# Altium footprint library MyLib.PcbLib: 105 footprints (part 3 of 7)
Each footprint in its own frame and in the unit in brackets; x right, y up, seen from the top. Pads: shape width x height; smd on the part's side, far side on the other; paste and mask are expansions set on the pad; w line width, h text height; cw(c..) or ccw(c..) is an arc to the next point about the centre after c.
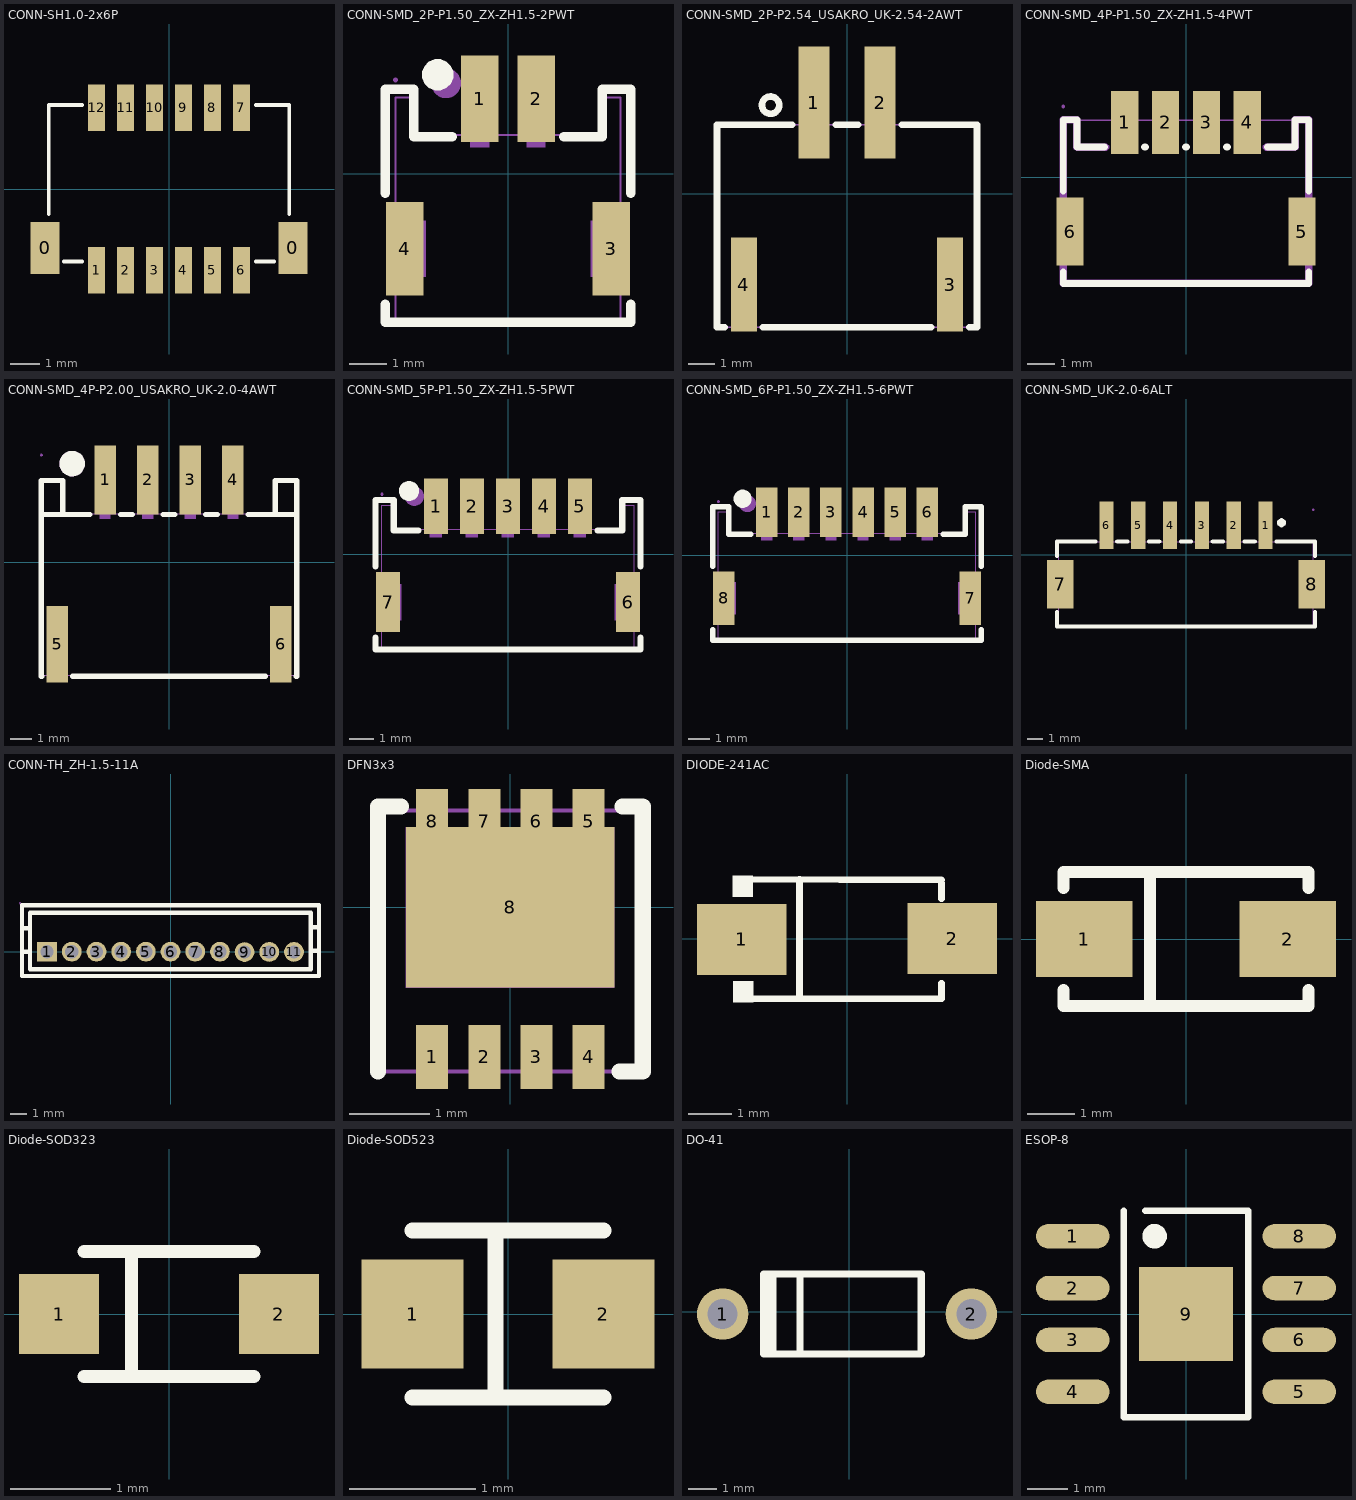
[diagram p2: the footprints below, top view; thin cyan lines are the x and y axes]

## CONN-SH1.0-2x6P [mm]
pads (14):
  rect 1x1.8 smd mask+0.051: 0(-4.274,-2.032) 0(4.274,-2.032)
  rect 0.6x1.6 smd mask+0.051: 1(-2.5,-2.8) 2(-1.5,-2.8) 3(-0.5,-2.8) 4(0.5,-2.8) 5(1.5,-2.8) 6(2.5,-2.8) 7(2.5,2.8) 8(1.5,2.8) 9(0.5,2.8) 10(-0.5,2.8) 11(-1.5,2.8) 12(-2.5,2.8)
Top Overlay:
  lines w0.127: -4.15,-0.875 -4.15,2.9 -3,2.9 ; -3.625,-2.5 -3,-2.5 ; 3,-2.5 3.625,-2.5 ; 3,2.9 4.15,2.9 4.15,-0.875

## CONN-SMD_2P-P1.50_ZX-ZH1.5-2PWT [mm]
pads (4):
  rect 1x2.3 smd paste+0 mask+0.05: 1(-0.75,2) 2(0.75,2)
  rect 1x2.5 smd paste+0 mask+0.05: 3(2.75,-2) 4(-2.75,-2)
Top Overlay:
  region: -2.285,2.635 -2.285,2.717 -2.222,2.868 -2.107,2.983 -1.956,3.046 -1.792,3.046 -1.641,2.983 -1.526,2.868 -1.463,2.717 -1.463,2.635 -1.463,2.553 -1.526,2.402 -1.641,2.287 -1.792,2.224 -1.956,2.224 -2.107,2.287 -2.222,2.402 -2.285,2.553 -2.285,2.635
  lines w0.254: -3.271,-3.48 -3.271,-3.969 3.27,-3.969 ; -3.271,-0.52 -3.271,2.254 -2.509,2.254 -2.509,0.984 -1.481,0.984 ; 1.481,0.984 2.509,0.984 2.509,2.254 3.271,2.254 3.271,-0.52 ; 3.271,-3.969 3.271,-3.48
Mechanical 6:
  circle w0.4: c-1.651,2.413 r0.2
Mechanical 15:
  region: 2.2,-1.25 3,-1.25 3,-2.75 2.2,-2.75
  region: -3,-1.25 -2.2,-1.25 -2.2,-2.75 -3,-2.75
  region: 1,0.7 0.5,0.7 0.5,2.5 1,2.5
  region: -0.5,0.7 -1,0.7 -1,2.5 -0.5,2.5
  region: -2.94,2.5 -2.94,2.525 -2.975,2.56 -3.025,2.56 -3.06,2.525 -3.06,2.5 -3.06,2.475 -3.025,2.44 -2.975,2.44 -2.94,2.475 -2.94,2.5
  lines w0.051: -3,-3.969 -3,2.031 -2.5,2.031 -2.5,1.031 2.5,1.031 2.5,2.031 3,2.031 3,-3.969 -3,-3.969

## CONN-SMD_2P-P2.54_USAKRO_UK-2.54-2AWT [mm]
pads (4):
  rect 1.2x4.3 smd paste+0 mask+0.05: 1(-1.27,3.5) 2(1.27,3.5)
  rect 1x3.6 smd paste+0 mask+0.05: 3(3.97,-3.5) 4(-3.97,-3.5)
Top Overlay:
  circle w0.254: c-2.94,3.4 r0.332
  lines w0.254: -5.01,2.65 -2.101,2.65 ; -5,2.65 -5,-5.15 -4.701,-5.15 ; -3.239,-5.15 3.239,-5.15 ; -0.439,2.65 0.439,2.65 ; 2.101,2.65 5,2.65 5,-5.15 4.701,-5.15
Mechanical 6:
  circle w0.4: c-1.22,4.62 r0.2
Mechanical 15:
  region: 0.95,5 1.59,5 1.59,2 0.95,2
  region: -1.59,5 -0.95,5 -0.95,2 -1.59,2
  region: 3.65,-2.25 4.29,-2.25 4.29,-4.75 3.65,-4.75
  region: -4.29,-2.25 -3.65,-2.25 -3.65,-4.75 -4.29,-4.75
  lines w0.051: -5,-5.15 -5,2.65 5,2.65 5,-5.15 -5,-5.15

## CONN-SMD_4P-P1.50_ZX-ZH1.5-4PWT [mm]
pads (6):
  rect 1x2.3 smd paste+0 mask+0.05: 1(-2.25,2) 2(-0.75,2) 3(0.75,2) 4(2.25,2)
  rect 1x2.5 smd paste+0 mask+0.05: 5(4.25,-2) 6(-4.25,-2)
Top Overlay:
  lines w0.254: -4.5,-3.481 -4.5,-3.9 4.5,-3.9 4.5,-3.481 ; -4.5,-0.519 -4.5,2.1 -4,2.1 -4,1.1 -2.981,1.1 ; -1.519,1.1 -1.481,1.1 ; -0.019,1.1 0.019,1.1 ; 1.481,1.1 1.519,1.1 ; 2.981,1.1 4,1.1 4,2.1 4.5,2.1 4.5,-0.519
Mechanical 6:
  region: -2.95,0.973 -4,0.973 -4.025,0.973 -4.072,0.992 -4.108,1.028 -4.127,1.075 -4.127,1.1 -4.127,1.973 -4.373,1.973 -4.373,-3.773 4.373,-3.773 4.373,1.973 4.127,1.973 4.127,1.1 4.127,1.075 4.108,1.028 4.072,0.992 4.025,0.973 4,0.973 2.95,0.973 2.897,0.973 2.823,1.047 2.823,1.153 2.897,1.227 2.95,1.227 3.873,1.227 3.873,2.1 3.873,2.125 3.892,2.172 3.928,2.208 3.975,2.227 4,2.227 4.5,2.227 4.525,2.227 4.572,2.208 4.608,2.172 4.627,2.125 4.627,2.1 4.627,-3.9 4.627,-3.925 4.608,-3.972 4.572,-4.008 4.525,-4.027 4.5,-4.027 -4.5,-4.027 -4.525,-4.027 -4.572,-4.008 -4.608,-3.972 -4.627,-3.925 -4.627,-3.9 -4.627,2.1 -4.627,2.125 -4.608,2.172 -4.572,2.208 -4.525,2.227 -4.5,2.227 -4,2.227 -3.975,2.227 -3.928,2.208 -3.892,2.172 -3.873,2.125 -3.873,2.1 -3.873,1.227 -2.95,1.227 -2.897,1.227 -2.823,1.153 -2.823,1.047 -2.897,0.973 -2.95,0.973
Mechanical 15:
  region: -4.44,2.59 -4.44,2.615 -4.475,2.65 -4.525,2.65 -4.56,2.615 -4.56,2.59 -4.56,2.565 -4.525,2.53 -4.475,2.53 -4.44,2.565 -4.44,2.59
  region: 2,2.59 2.5,2.59 2.5,1.09 2,1.09
  region: 0.5,2.59 1,2.59 1,1.09 0.5,1.09
  region: -1,2.59 -0.5,2.59 -0.5,1.09 -1,1.09
  region: -2.5,2.59 -2,2.59 -2,1.09 -2.5,1.09
  region: 4,-1 4.5,-1 4.5,-3 4,-3
  region: -4.5,-1 -4,-1 -4,-3 -4.5,-3
  lines w0.051: -4.5,-3.911 -4.5,2.089 4.5,2.089 4.5,-3.911 -4.5,-3.911

## CONN-SMD_4P-P2.00_USAKRO_UK-2.0-4AWT [mm]
pads (6):
  rect 1x3.25 smd paste+0 mask+0.05: 1(-3,3.862) 2(-1,3.862) 3(1,3.862) 4(3,3.862)
  rect 1x3.6 smd paste+0 mask+0.05: 5(-5.25,-3.862) 6(5.25,-3.862)
Top Overlay:
  circle w0.6: c-4.551,4.632 r0.3
  lines w0.254: -5.981,-5.363 -6,-5.363 -6,2.237 ; -4.519,-5.363 4.519,-5.363 ; -3.731,2.237 -6,2.237 ; -2.269,2.237 -1.731,2.237 ; -0.269,2.237 0.269,2.237 ; 1.731,2.237 2.269,2.237 ; 3.731,2.237 6,2.237 ; 5,2.237 5,3.837 6,3.837 6,2.237 ; 5.981,-5.363 6,-5.363 6,2.237 ; -6,2.237 -5,2.237 -5,3.837 -6,3.837 -6,2.237
Mechanical 6:
  circle w0.6: c-4.551,4.632 r0.3
Mechanical 15:
  region: -5.94,5.031 -5.94,5.055 -5.975,5.09 -6.025,5.09 -6.06,5.055 -6.06,5.03 -6.06,5.006 -6.025,4.97 -5.975,4.971 -5.94,5.006 -5.94,5.031
  region: 2.75,5.031 3.25,5.031 3.25,2.031 2.75,2.031
  region: 0.75,5.031 1.25,5.031 1.25,2.031 0.75,2.031
  region: -1.25,5.031 -0.75,5.031 -0.75,2.031 -1.25,2.031
  region: -3.25,5.031 -2.75,5.031 -2.75,2.031 -3.25,2.031
  region: 5,-2.362 5.5,-2.362 5.5,-5.362 5,-5.362
  region: -5.5,-2.362 -5,-2.362 -5,-5.362 -5.5,-5.362
  lines w0.051: -6,-5.319 -6,2.281 6,2.281 6,-5.319 -6,-5.319

## CONN-SMD_5P-P1.50_ZX-ZH1.5-5PWT [mm]
pads (7):
  rect 1x2.3 smd paste+0 mask+0.05: 1(-3,2) 2(-1.5,2) 3(0,2) 4(1.5,2) 5(3,2)
  rect 1x2.5 smd paste+0 mask+0.05: 6(5,-2) 7(-5,-2)
Top Overlay:
  region: -4.535,2.635 -4.535,2.717 -4.472,2.868 -4.357,2.983 -4.206,3.046 -4.042,3.046 -3.891,2.983 -3.775,2.868 -3.713,2.717 -3.713,2.635 -3.713,2.553 -3.775,2.402 -3.891,2.287 -4.042,2.224 -4.206,2.224 -4.357,2.287 -4.472,2.402 -4.535,2.553 -4.535,2.635
  lines w0.254: -5.521,-3.48 -5.521,-3.969 5.52,-3.969 ; -5.521,-0.52 -5.521,2.254 -4.759,2.254 -4.759,0.984 -3.731,0.984 ; 3.731,0.984 4.759,0.984 4.759,2.254 5.521,2.254 5.521,-0.52 ; 5.521,-3.969 5.521,-3.48
Mechanical 6:
  circle w0.4: c-3.901,2.413 r0.2
Mechanical 15:
  region: 4.45,-1.25 5.25,-1.25 5.25,-2.75 4.45,-2.75
  region: 3.25,0.7 2.75,0.7 2.75,2.5 3.25,2.5
  region: 0.25,0.7 -0.25,0.7 -0.25,2.5 0.25,2.5
  region: 1.75,0.7 1.25,0.7 1.25,2.5 1.75,2.5
  region: -2.75,0.7 -3.25,0.7 -3.25,2.5 -2.75,2.5
  region: -1.25,0.7 -1.75,0.7 -1.75,2.5 -1.25,2.5
  region: -5.25,-1.25 -4.45,-1.25 -4.45,-2.75 -5.25,-2.75
  region: -5.19,2.5 -5.191,2.524 -5.226,2.558 -5.274,2.558 -5.309,2.524 -5.31,2.5 -5.309,2.476 -5.274,2.443 -5.226,2.443 -5.191,2.476 -5.19,2.5
  lines w0.051: -5.25,-3.969 -5.25,2.031 -4.75,2.031 -4.75,1.031 4.75,1.031 4.75,2.031 5.25,2.031 5.25,-3.969 -5.25,-3.969

## CONN-SMD_6P-P1.50_ZX-ZH1.5-6PWT [mm]
pads (8):
  rect 1x2.3 smd paste+0 mask+0.05: 1(-3.75,2) 2(-2.25,2) 3(-0.75,2) 4(0.75,2) 5(2.25,2) 6(3.75,2)
  rect 1x2.5 smd paste+0 mask+0.05: 7(5.75,-2) 8(-5.75,-2)
Top Overlay:
  region: -5.285,2.635 -5.285,2.717 -5.222,2.868 -5.107,2.983 -4.956,3.046 -4.792,3.046 -4.641,2.983 -4.525,2.868 -4.463,2.717 -4.463,2.635 -4.463,2.553 -4.525,2.402 -4.641,2.287 -4.792,2.224 -4.956,2.224 -5.107,2.287 -5.222,2.402 -5.285,2.553 -5.285,2.635
  lines w0.254: -6.271,-3.48 -6.271,-3.969 6.27,-3.969 ; -6.271,-0.52 -6.271,2.254 -5.509,2.254 -5.509,0.984 -4.481,0.984 ; 4.481,0.984 5.509,0.984 5.509,2.254 6.271,2.254 6.271,-0.52 ; 6.271,-3.969 6.271,-3.48
Mechanical 6:
  circle w0.4: c-4.651,2.413 r0.2
Mechanical 15:
  region: 5.2,-1.25 6,-1.25 6,-2.75 5.2,-2.75
  region: 2.5,0.7 2,0.7 2,2.5 2.5,2.5
  region: 4,0.7 3.5,0.7 3.5,2.5 4,2.5
  region: -0.5,0.7 -1,0.7 -1,2.5 -0.5,2.5
  region: 1,0.7 0.5,0.7 0.5,2.5 1,2.5
  region: -3.5,0.7 -4,0.7 -4,2.5 -3.5,2.5
  region: -2,0.7 -2.5,0.7 -2.5,2.5 -2,2.5
  region: -6,-1.25 -5.2,-1.25 -5.2,-2.75 -6,-2.75
  region: -5.94,2.5 -5.94,2.525 -5.975,2.56 -6.025,2.56 -6.06,2.525 -6.06,2.5 -6.06,2.475 -6.025,2.44 -5.975,2.44 -5.94,2.475 -5.94,2.5
  lines w0.051: -6,-3.969 -6,2.031 -5.5,2.031 -5.5,1.031 5.5,1.031 5.5,2.031 6,2.031 6,-3.969 -6,-3.969

## CONN-SMD_UK-2.0-6ALT [mm]
pads (8):
  rect 0.9x3 smd: 1(5,1.85) 2(3,1.85) 3(1,1.85) 4(-1,1.85) 5(-3,1.85) 6(-5,1.85)
  rect 1.65x3.05 smd: 7(-7.9,-1.85) 8(7.9,-1.85)
Top Overlay:
  region: 5.732,2 5.732,2.053 5.772,2.152 5.848,2.228 5.947,2.268 6.053,2.268 6.152,2.228 6.228,2.152 6.268,2.053 6.268,2 6.268,1.947 6.228,1.848 6.152,1.772 6.053,1.732 5.947,1.732 5.848,1.772 5.772,1.848 5.732,1.947 5.732,2
  lines w0.254: -8.101,-3.606 -8.101,-4.531 8.101,-4.531 8.101,-3.607 ; -8.101,-0.093 -8.101,0.825 -5.682,0.825 -5.681,0.825 ; -4.319,0.825 -3.681,0.825 ; -2.319,0.825 -1.681,0.825 ; -0.319,0.825 0.319,0.825 ; 1.681,0.825 2.319,0.825 ; 3.681,0.825 4.319,0.825 ; 5.681,0.825 8.1,0.825 8.1,-0.093 ; 8.1,-0.094 8.1,-0.093
Mechanical 6:
  circle w0.2: c6,2 r0.1
Mechanical 15:
  region: 7.25,-0.85 8,-0.85 8,-2.85 7.25,-2.85
  region: -8,-0.85 -7.25,-0.85 -7.25,-2.85 -8,-2.85
  region: 2.75,2.819 3.25,2.819 3.25,0.519 2.75,0.519
  region: 4.75,2.819 5.25,2.819 5.25,0.519 4.75,0.519
  region: 0.75,2.819 1.25,2.819 1.25,0.519 0.75,0.519
  region: -1.25,2.819 -0.75,2.819 -0.75,0.519 -1.25,0.519
  region: -3.25,2.819 -2.75,2.819 -2.75,0.519 -3.25,0.519
  region: -5.25,2.819 -4.75,2.819 -4.75,0.519 -5.25,0.519
  region: 8.06,2.819 8.06,2.843 8.025,2.878 7.976,2.878 7.941,2.843 7.94,2.819 7.941,2.794 7.976,2.76 8.025,2.76 8.06,2.794 8.06,2.819
  lines w0.051: -8,-4.531 8,-4.531 8,0.819 -8,0.819 -8,-4.531

## CONN-TH_ZH-1.5-11A [mm]
pads (11):
  rect 1.2x1.2 hole 0.8: 1(-7.5,0.013)
  round 1.2 hole 0.8: 2(-6,0.013) 3(-4.5,0.013) 4(-3,0.013) 5(-1.5,0.013) 6(0,0.013) 7(1.5,0.013) 8(3,0.013) 9(4.5,-0.013) 10(6,0) 11(7.5,0)
Top Overlay:
  lines w0.254: -9.019,0.013 -8.537,0.013 ; -9.019,1.435 -8.537,1.435 ; -9.02,2.832 9.02,2.832 ; -9.019,2.839 -9.019,-1.46 9.02,-1.461 9.02,2.839 ; 8.52,-1.048 8.52,2.381 ; 8.52,0.069 9.02,0.069 ; 8.52,1.492 9.02,1.492 ; 8.537,-1.054 -8.537,-1.054 -8.537,2.375 8.537,2.375
Mechanical 15:
  region: -9.086,2.966 -9.086,2.991 -9.122,3.026 -9.171,3.026 -9.206,2.991 -9.206,2.966 -9.206,2.942 -9.171,2.906 -9.122,2.906 -9.086,2.942 -9.086,2.966

## DFN3x3 [mm]
pads (9):
  rect 0.4x0.8 smd mask+0.051: 1(-0.971,-1.863) 2(-0.321,-1.863) 3(0.33,-1.863) 4(0.98,-1.863) 5(0.98,1.076) 6(0.33,1.076) 7(-0.32,1.076) 8(-0.971,1.076)
  rect 2.6x2 smd mask+0.051: 8(0,0)
Top Overlay:
  lines w0.2: -1.645,-2.043 -1.645,1.257 -1.358,1.257 ; 1.367,-2.043 1.655,-2.043 1.655,1.257 1.4,1.257
Top Paste:
  region: -0.77,-2.264 -0.77,-1.463 -1.17,-1.463 -1.17,-2.264
  region: -0.12,-2.264 -0.12,-1.463 -0.52,-1.463 -0.52,-2.264
  region: 0.53,-2.264 0.53,-1.463 0.13,-1.463 0.13,-2.264
  region: 0.78,-1.463 0.78,-2.264 1.18,-2.264 1.18,-1.463
  region: -0.12,1 -0.12,1.476 -0.52,1.476 -0.52,1 -0.77,1 -0.77,1.476 -1.17,1.476 -1.17,1 -1.299,1 -1.299,-1 1.301,-1 1.301,1 1.18,1 1.18,1.476 0.78,1.476 0.78,1 0.53,1 0.53,1.476 0.13,1.476 0.13,1
Mechanical 15:
  region: -0.82,-2.038 -1.12,-2.038 -1.12,-1.688 -0.82,-1.688
  region: -0.17,-2.038 -0.47,-2.038 -0.47,-1.688 -0.17,-1.688
  region: 0.48,-2.038 0.18,-2.038 0.18,-1.688 0.48,-1.688
  region: 1.13,-2.038 0.83,-2.038 0.83,-1.688 1.13,-1.688
  region: -0.82,0.902 -1.12,0.902 -1.12,1.252 -0.82,1.252
  region: -0.17,0.901 -0.47,0.901 -0.47,1.251 -0.17,1.251
  region: 0.48,0.901 0.18,0.901 0.18,1.251 0.48,1.251
  region: 1.13,0.902 0.83,0.902 0.83,1.252 1.13,1.252
  region: -1.3,1 1.3,1 1.3,-1 -1.3,-1
  region: -1.585,-2.043 -1.585,-2.019 -1.621,-1.983 -1.67,-1.983 -1.705,-2.019 -1.705,-2.043 -1.705,-2.068 -1.67,-2.103 -1.621,-2.103 -1.585,-2.068
  lines w0.051: -1.645,-2.043 1.605,-2.043 1.605,1.207 -1.645,1.207 -1.645,-2.043

## DIODE-241AC [mm]
pads (2):
  rect 2.046x1.62 smd: 1(-2.404,-0.009) 2(2.404,0.009)
Top Overlay:
  region: -2.158,1.44 -2.158,0.962 -2.615,0.962 -2.615,1.44
  region: -2.145,-1.44 -2.145,-0.962 -2.602,-0.962 -2.602,-1.44
  lines w0.152: -2.526,1.364 2.159,1.346 ; -2.504,-1.364 2.165,-1.364 ; -1.085,-1.364 -1.085,1.364 ; 2.159,-1.364 2.159,-1.013 ; 2.159,0.919 2.159,1.27
Mechanical 6:
  region: -2.432,-0.097 -2.432,0.097 -1.659,0.097 -1.659,-0.097
  region: 2.432,-0.097 2.432,0.097 1.659,0.097 1.659,-0.097
  region: 2.142,-0.644 2.142,0.644 1.949,0.644 1.949,-0.644
Mechanical 15:
  region: -2.44,-1.3 -2.44,-1.275 -2.475,-1.24 -2.525,-1.24 -2.56,-1.275 -2.56,-1.3 -2.56,-1.325 -2.525,-1.36 -2.475,-1.36 -2.44,-1.325

## Diode-SMA [mm]
pads (2):
  rect 2.046x1.62 smd mask+0.051: 1(-2.16,0) 2(2.16,0)
Top Overlay:
  lines w0.254: -2.596,-1.087 -2.596,-1.426 2.596,-1.426 2.596,-1.087 ; -2.596,1.087 -2.596,1.426 2.596,1.426 2.596,1.087 ; -0.762,-1.426 -0.762,1.426

## Diode-SOD323 [mm]
pads (2):
  rect 0.8x0.8 smd mask+0.051: 1(-1.1,0) 2(1.1,0)
Top Overlay:
  lines w0.127: -0.85,-0.625 0.85,-0.625 ; -0.85,0.625 0.85,0.625 ; -0.375,-0.625 -0.375,0.625

## Diode-SOD523 [mm]
pads (2):
  rect 0.806x0.864 smd mask+0.051: 1(-0.753,0) 2(0.753,0)
Top Overlay:
  lines w0.127: -0.753,-0.661 0.753,-0.661 ; -0.753,0.661 0.753,0.661 ; -0.1,-0.625 -0.1,0.625

## DO-41 [mm]
pads (2):
  round 1.8 hole 1.05 mask+0.051: 1(-4.426,-0.071) 2(4.274,-0.071)
Top Overlay:
  lines w0.254: -2.743,-1.468 -2.997,-1.468 -2.997,1.329 -2.87,1.329 ; -2.676,-1.468 -2.87,-1.468 -2.87,1.329 ; -1.717,-1.471 -1.717,1.329 ; -2.87,1.329 -2.676,1.329 ; -2.676,1.329 -2.676,-1.471 2.524,-1.471 2.524,1.329 -2.676,1.329
Mechanical 15:
  region: -4.026,-0.071 -4.026,0.009 -4.087,0.156 -4.199,0.268 -4.346,0.329 -4.506,0.329 -4.653,0.268 -4.765,0.156 -4.826,0.009 -4.826,-0.071 -4.826,-0.15 -4.765,-0.297 -4.653,-0.41 -4.506,-0.471 -4.346,-0.471 -4.199,-0.41 -4.087,-0.297 -4.026,-0.15

## ESOP-8 [mm]
pads (9):
  oval 1.8x0.6 smd mask+0.102: 1(-2.772,1.905) 2(-2.772,0.635) 3(-2.772,-0.635) 4(-2.772,-1.905) 5(2.772,-1.905) 6(2.772,-0.635) 7(2.772,0.635) 8(2.772,1.905)
  rect 2.29x2.29 smd mask+0.102: 9(0,0)
Top Overlay:
  circle w0.3: c-0.769,1.905 r0.15
  lines w0.152: -1.521,2.526 -1.521,-2.526 1.521,-2.526 1.521,2.526 -1,2.526